# EAGLE library part M66 (library Custom_Parts)
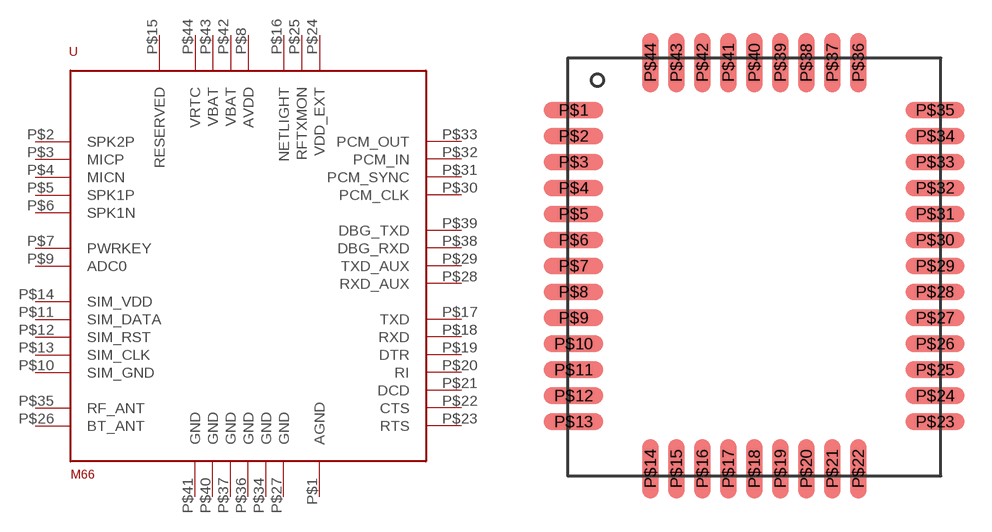
[diagram p4: symbol with the pads of M66; footprint M66]

Designator prefix -

## M66  [M66]
P$1  AGND
P$2  SPK2P
P$3  MICP
P$4  MICN
P$5  SPK1P
P$6  SPK1N
P$7  PWRKEY
P$8  AVDD
P$9  ADC0
P$10  SIM_GND
P$11  SIM_DATA
P$12  SIM_RST
P$13  SIM_CLK
P$14  SIM_VDD
P$15  RESERVED
P$16  NETLIGHT
P$17  TXD
P$18  RXD
P$19  DTR
P$20  RI
P$21  DCD
P$22  CTS
P$23  RTS
P$24  VDD_EXT
P$25  RFTXMON
P$26  BT_ANT
P$27  GND
P$28  RXD_AUX
P$29  TXD_AUX
P$30  PCM_CLK
P$31  PCM_SYNC
P$32  PCM_IN
P$33  PCM_OUT
P$34  GND
P$35  RF_ANT
P$36  GND
P$37  GND
P$38  DBG_RXD
P$39  DBG_TXD
P$40  GND
P$41  GND
P$42  VBAT
P$43  VBAT
P$44  VRTC

## Footprint M66 (pad centres in mm)
smd 2.499 x 0.699: P$1 0.249,0; P$2 0.249,-1.1; P$3 0.249,-2.2; P$4 0.249,-3.299; P$5 0.249,-4.399; P$6 0.249,-5.499; P$7 0.249,-6.599; P$8 0.249,-7.699; P$9 0.249,-8.799; P$10 0.249,-9.898; P$11 0.249,-10.998; P$12 0.249,-12.098; P$13 0.249,-13.198; P$23 15.547,-13.198; P$24 15.547,-12.098; P$25 15.547,-10.998; P$26 15.547,-9.898; P$27 15.547,-8.799; P$28 15.547,-7.699; P$29 15.547,-6.599; P$30 15.547,-5.499; P$31 15.547,-4.399; P$32 15.547,-3.299; P$33 15.547,-2.2; P$34 15.547,-1.1; P$35 15.547,0
smd 0.699 x 2.499: P$14 3.5,-15.197; P$15 4.6,-15.197; P$16 5.7,-15.197; P$17 6.8,-15.197; P$18 7.899,-15.197; P$19 8.999,-15.197; P$20 10.099,-15.197; P$21 11.199,-15.197; P$22 12.299,-15.197; P$36 12.299,2; P$37 11.199,2; P$38 10.099,2; P$39 8.999,2; P$40 7.899,2; P$41 6.8,2; P$42 5.7,2; P$43 4.6,2; P$44 3.5,2